# Altium footprint library Edison.PCBLIB: 4 footprints
Each footprint in its own frame and in the unit in brackets; x right, y up, seen from the top. Pads: shape width x height; smd on the part's side, far side on the other; paste and mask are expansions set on the pad; w line width, h text height; cw(c..) or ccw(c..) is an arc to the next point about the centre after c.
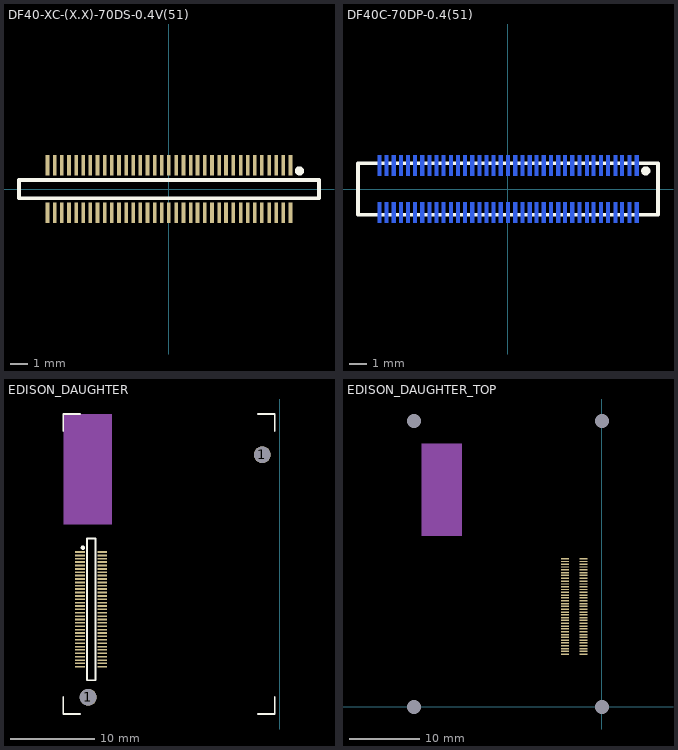
[diagram p0: the footprints below, top view; thin cyan lines are the x and y axes]

## DF40-XC-(X.X)-70DS-0.4V(51) [mil]
pads (70):
  rect 8x45 smd mask+0.39: 1(268,52) 2(268,-51.97) 3(252,52) 4(252,-51.97) 5(237,52) 6(237,-51.97) 7(221,52) 8(221,-51.97) 9(205,52) 10(205,-51.97) 11(189,52) 12(189,-51.97) 13(174,52) 14(174,-51.97) 15(158,52) 16(158,-51.97) 17(142,52) 18(142,-51.97) 19(126,52) 20(126,-51.97) 21(111,52) 22(111,-51.97) 23(95,52) 24(95,-51.97) 25(79,52) 26(79,-51.97) 27(63,52) 28(63,-51.97) 29(48,52) 30(48,-51.97) 31(32,52) 32(32,-51.97) 33(16,52) 34(16,-51.97) 35(0,52) 36(0,-51.97) 37(-15.75,52) 38(-15.75,-51.97) 39(-31.5,52) 40(-31.5,-51.97) 41(-47.24,52) 42(-47.24,-51.97) 43(-62.99,52) 44(-62.99,-51.97) 45(-78.74,52) 46(-78.74,-51.97) 47(-94.49,52) 48(-94.49,-51.97) 49(-110.24,52) 50(-110.24,-51.97) 51(-125.98,52) 52(-125.98,-51.97) 53(-141.73,52) 54(-141.73,-51.97) 55(-157.48,52) 56(-157.48,-51.97) 57(-173.23,52) 58(-173.23,-51.97) 59(-188.98,52) 60(-188.98,-51.97) 61(-204.72,52) 62(-204.72,-51.97) 63(-220.47,52) 64(-220.47,-51.97) 65(-236.22,52) 66(-236.22,-51.97) 67(-251.97,52) 68(-251.97,-51.97) 69(-267.72,52) 70(-267.72,-51.97)
Top Overlay:
  circle w12: c288,40 r4
  lines w8: -330.71,-20 331,-20 331,20 -330.71,20 -330.71,-20

## DF40C-70DP-0.4(51) [mil]
pads (74):
  rect 8x45 smd far side: 1(268,52) 2(268,-51.97) 3(252,52) 4(252,-51.97) 5(237,52) 6(237,-51.97) 7(221,52) 8(221,-51.97) 9(205,52) 10(205,-51.97) 11(189,52) 12(189,-51.97) 13(174,52) 14(174,-51.97) 15(158,52) 16(158,-51.97) 17(142,52) 18(142,-51.97) 19(126,52) 20(126,-51.97) 21(111,52) 22(111,-51.97) 23(95,52) 24(95,-51.97) 25(79,52) 26(79,-51.97) 27(63,52) 28(63,-51.97) 29(48,52) 30(48,-51.97) 31(32,52) 32(32,-51.97) 33(16,52) 34(16,-51.97) 35(0,52) 36(0,-51.97) 37(-15.75,52) 38(-15.75,-51.97) 39(-31.5,52) 40(-31.5,-51.97) 41(-47.24,52) 42(-47.24,-51.97) 43(-62.99,52) 44(-62.99,-51.97) 45(-78.74,52) 46(-78.74,-51.97) 47(-94.49,52) 48(-94.49,-51.97) 49(-110.24,52) 50(-110.24,-51.97) 51(-125.98,52) 52(-125.98,-51.97) 53(-141.73,52) 54(-141.73,-51.97) 55(-157.48,52) 56(-157.48,-51.97) 57(-173.23,52) 58(-173.23,-51.97) 59(-188.98,52) 60(-188.98,-51.97) 61(-204.72,52) 62(-204.72,-51.97) 63(-220.47,52) 64(-220.47,-51.97) 65(-236.22,52) 66(-236.22,-51.97) 67(-251.97,52) 68(-251.97,-51.97) 69(-267.72,52) 70(-267.72,-51.97) NC1(284,52) NC2(284,-51.97) NC3(-283.46,-51.97) NC4(-283.46,52)
Top Overlay:
  circle w12: c304,40 r4
  lines w8: -330.71,-56.69 -330.71,57 331,57 331,-56.69 -330.71,-56.69

## EDISON_DAUGHTER [mil]
pads (72):
  rect 45x8 smd mask+0.39: 1(-931.16,830.16) 2(-827.16,830.16) 3(-931.16,814.16) 4(-827.16,814.16) 5(-931.16,799.16) 6(-827.16,799.16) 7(-931.16,783.16) 8(-827.16,783.16) 9(-931.16,767.16) 10(-827.16,767.16) 11(-931.16,751.16) 12(-827.16,751.16) 13(-931.16,736.16) 14(-827.16,736.16) 15(-931.16,720.16) 16(-827.16,720.16) 17(-931.16,704.16) 18(-827.16,704.16) 19(-931.16,688.16) 20(-827.16,688.16) 21(-931.16,673.16) 22(-827.16,673.16) 23(-931.16,657.16) 24(-827.16,657.16) 25(-931.16,641.16) 26(-827.16,641.16) 27(-931.16,625.16) 28(-827.16,625.16) 29(-931.16,610.16) 30(-827.16,610.16) 31(-931.16,594.16) 32(-827.16,594.16) 33(-931.16,578.16) 34(-827.16,578.16) 35(-931.16,563.16) 36(-827.16,563.16) 37(-931.16,547.16) 38(-827.16,547.16) 39(-931.16,531.16) 40(-827.16,531.16) 41(-931.16,515.16) 42(-827.16,515.16) 43(-931.16,500.16) 44(-827.16,500.16) 45(-931.16,484.16) 46(-827.16,484.16) 47(-931.16,468.16) 48(-827.16,468.16) 49(-931.16,452.16) 50(-827.16,452.16) 51(-931.16,437.16) 52(-827.16,437.16) 53(-931.16,421.16) 54(-827.16,421.16) 55(-931.16,405.16) 56(-827.16,405.16) 57(-931.16,389.16) 58(-827.16,389.16) 59(-931.16,374.16) 60(-827.16,374.16) 61(-931.16,358.16) 62(-827.16,358.16) 63(-931.16,342.16) 64(-827.16,342.16) 65(-931.16,326.16) 66(-827.16,326.16) 67(-931.16,311.16) 68(-827.16,311.16) 69(-931.16,295.16) 70(-827.16,295.16)
  round 79 hole 79: 1(-893.16,153.16) 1(-82.16,1283.16)
Top Overlay:
  circle w12: c-918.16,850.16 r4
  lines w8: -1009.16,154.16 -1009.16,75.16 -930.16,75.16 ; -1009.16,1394.16 -1009.16,1473.16 -930.16,1473.16 ; -103.16,75.16 -24.16,75.16 -24.16,154.16 ; -103.16,1473.16 -24.16,1473.16 -24.16,1394.16 ; -899.16,232.16 -899.16,893.16 -859.16,893.16 -859.16,232.16 -899.16,232.16
Mechanical 27:
  region: -781.16,1473.16 -1009.16,1473.16 -1009.16,957.16 -781.16,957.16
Mechanical 28:
  region: -781.16,1473.16 -1009.16,1473.16 -1009.16,957.16 -781.16,957.16

## EDISON_DAUGHTER_TOP [mil]
pads (74):
  round 0 hole 78.74 unplated mask+43.31: 1(-1050,0) 1(-1050,1600) 1(0,0) 1(0,1600)
  rect 45x8 smd mask+0.39: 1(-102.16,830.16) 2(-206.16,830.16) 3(-102.16,814.16) 4(-206.16,814.16) 5(-102.16,799.16) 6(-206.16,799.16) 7(-102.16,783.16) 8(-206.16,783.16) 9(-102.16,767.16) 10(-206.16,767.16) 11(-102.16,751.16) 12(-206.16,751.16) 13(-102.16,736.16) 14(-206.16,736.16) 15(-102.16,720.16) 16(-206.16,720.16) 17(-102.16,704.16) 18(-206.16,704.16) 19(-102.16,688.16) 20(-206.16,688.16) 21(-102.16,673.16) 22(-206.16,673.16) 23(-102.16,657.16) 24(-206.16,657.16) 25(-102.16,641.16) 26(-206.16,641.16) 27(-102.16,625.16) 28(-206.16,625.16) 29(-102.16,610.16) 30(-206.16,610.16) 31(-102.16,594.16) 32(-206.16,594.16) 33(-102.16,578.16) 34(-206.16,578.16) 35(-102.16,563.16) 36(-206.16,563.16) 37(-102.16,547.16) 38(-206.16,547.16) 39(-102.16,531.16) 40(-206.16,531.16) 41(-102.16,515.16) 42(-206.16,515.16) 43(-102.16,500.16) 44(-206.16,500.16) 45(-102.16,484.16) 46(-206.16,484.16) 47(-102.16,468.16) 48(-206.16,468.16) 49(-102.16,452.16) 50(-206.16,452.16) 51(-102.16,437.16) 52(-206.16,437.16) 53(-102.16,421.16) 54(-206.16,421.16) 55(-102.16,405.16) 56(-206.16,405.16) 57(-102.16,389.16) 58(-206.16,389.16) 59(-102.16,374.16) 60(-206.16,374.16) 61(-102.16,358.16) 62(-206.16,358.16) 63(-102.16,342.16) 64(-206.16,342.16) 65(-102.16,326.16) 66(-206.16,326.16) 67(-102.16,311.16) 68(-206.16,311.16) 69(-102.16,295.16) 70(-206.16,295.16)
Bottom Overlay:
  circle w12: c-115.16,850.16 r4
  lines w8: -1009.16,154.16 -1009.16,75.16 -930.16,75.16 ; -1009.16,1394.16 -1009.16,1473.16 -930.16,1473.16 ; -103.16,75.16 -24.16,75.16 -24.16,154.16 ; -103.16,1473.16 -24.16,1473.16 -24.16,1394.16 ; -174.16,232.16 -134.16,232.16 -134.16,893.16 -174.16,893.16 -174.16,232.16
Mechanical 27:
  region: -781.16,1473.16 -1009.16,1473.16 -1009.16,957.16 -781.16,957.16
Mechanical 28:
  region: -781.16,1473.16 -1009.16,1473.16 -1009.16,957.16 -781.16,957.16